# EAGLE library part AD7912* (library 0-ad7912,7922)
Kickass 2-Channel, 2.35 V to 5.25 V, 1 MSPS, 10-Bit ADC.
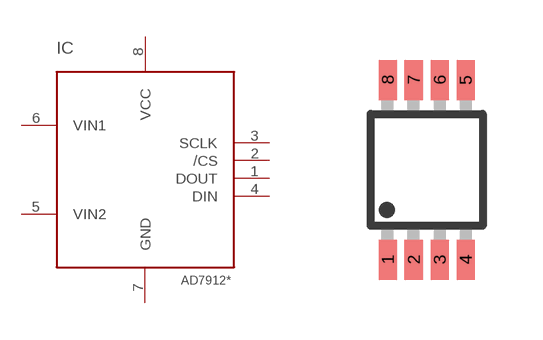
[diagram p0: symbol with the pads of MSOP8; footprint MSOP8]

Designator prefix IC

## AD7912ARM  [MSOP8]
1  DOUT
2  /CS
3  SCLK
4  DIN
5  VIN2
6  VIN1
7  GND
8  VCC

## Footprint MSOP8 (pad centres in mm)
Micro Small Outline Package Grid .65mm
smd 0.45 x 1: 1 -0.975,-2.25; 2 -0.325,-2.25; 3 0.325,-2.25; 4 0.975,-2.25; 5 0.975,2.25; 6 0.325,2.25; 7 -0.325,2.25; 8 -0.975,2.25